# Altium footprint library PCB - CONNECTOR - CUI - CUI SJ-43515-SMT-TR.PcbLib: 1 footprints
Each footprint in its own frame and in the unit in brackets; x right, y up, seen from the top. Pads: shape width x height; smd on the part's side, far side on the other; paste and mask are expansions set on the pad; w line width, h text height; cw(c..) or ccw(c..) is an arc to the next point about the centre after c.
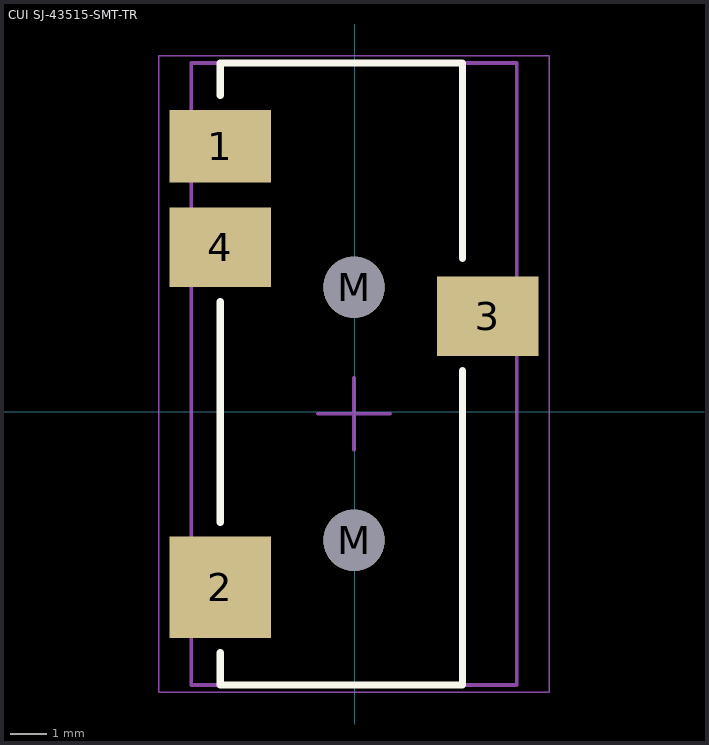
[diagram p0: the footprint, top view; thin cyan lines are the x and y axes]

## CUI SJ-43515-SMT-TR [mm] "3.50mm (0.141\", 1/8\", Mini Plug) - Headphone Phone Jack Stereo (4 Conductor, TRRS) Connector Solder"
height 5
pads (6):
  rect 2.8x2 smd: 1(-3.716,7.348)
  rect 2.8x2.8 smd: 2(-3.716,-4.852)
  rect 2.8x2.2 smd: 3(3.684,2.648) 4(-3.716,4.548)
  round 1.7 hole 1.7 unplated: M(-0.016,-3.552) M(-0.016,3.448)
Top Overlay:
  lines w0.2: -3.716,-6.652 -3.716,-7.552 2.984,-7.552 2.984,1.148 ; -3.716,-3.052 -3.716,3.048 ; -3.716,8.748 -3.716,9.648 2.984,9.648 2.984,4.248
Mechanical 13:
  circle w0.1: c-3.716,7.348 r0.762
  circle w0.1: c-3.716,7.348 r0.721
  lines w0.1: -4.516,-7.552 4.484,-7.552 4.484,9.648 -4.516,9.648 -4.516,-7.552
Mechanical 15:
  lines w0.05: -5.416,-7.752 5.384,-7.752 5.384,9.848 -5.416,9.848 -5.416,-7.752
  lines w0.1: -1.016,-0.052 -0.016,-0.052 ; -0.016,-1.052 -0.016,-0.052 ; -0.016,0.948 -0.016,-0.052 ; 0.984,-0.052 -0.016,-0.052
3D body "CUI - SJ-43515-SMT-TR.step": height 5, standoff -0.8, extent -4.516,-7.552 4.484,9.648